# Altium footprint library Speaker.PcbLib: 1 footprints
Each footprint in its own frame and in the unit in brackets; x right, y up, seen from the top. Pads: shape width x height; smd on the part's side, far side on the other; paste and mask are expansions set on the pad; w line width, h text height; cw(c..) or ccw(c..) is an arc to the next point about the centre after c.
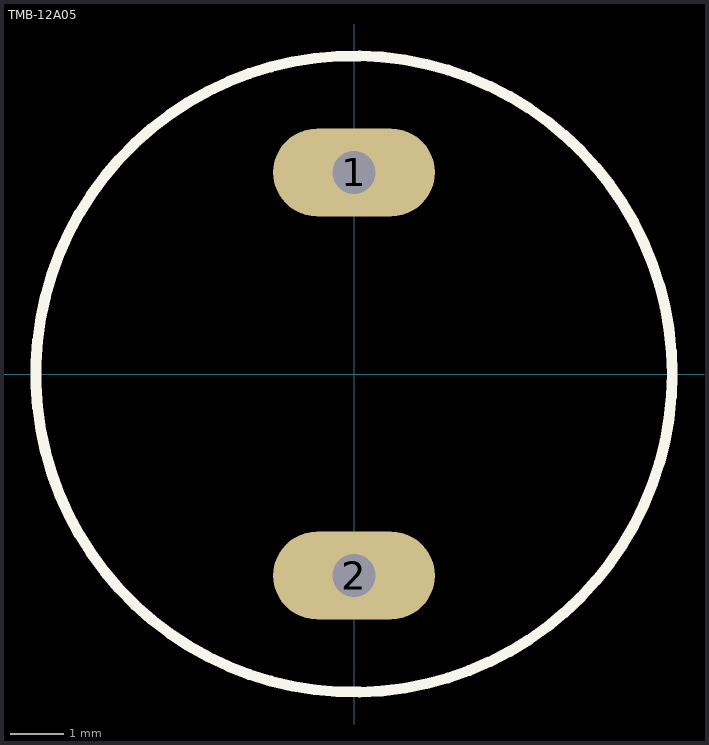
[diagram p0: the footprint, top view; thin cyan lines are the x and y axes]

## TMB-12A05 [mil]
pads (2):
  oval 120x65 hole 32: 1(0,149.61) 2(0,-149.61)
Top Overlay:
  circle w8: c0,0 r236.22
3D body: height 379.92, standoff -177.17, extent -236.22,-236.21 236.22,372.21